# EAGLE library part SKY13587 (library Skyworks)
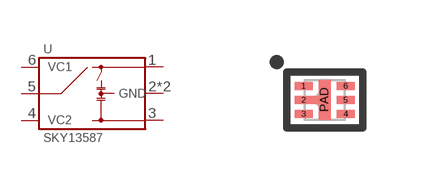
[diagram p3: symbol with the pads of MPLD-6-1MM; footprint MPLD-6-1MM]

Designator prefix U

## SKY13587-378LF  [MPLD-6-1MM]
1  OUT1
2  GND
3  OUT2
4  VC2
5  IN
6  VC1
PAD  GND

## Footprint MPLD-6-1MM (pad centres in mm)
smd 0.45 x 0.2: 1 -0.525,0.35; 2 -0.525,0; 3 -0.525,-0.35; 4 0.525,-0.35; 5 0.525,0; 6 0.525,0.35
smd 0.3 x 1: PAD 0,0